# EAGLE library part LIS302DL (library walkgeek-eagle)
LIS302DL edit this description Auto generated by make-symbol-device-package-bsdl.ulp Rev. 43 Source: LIS302DL.txt
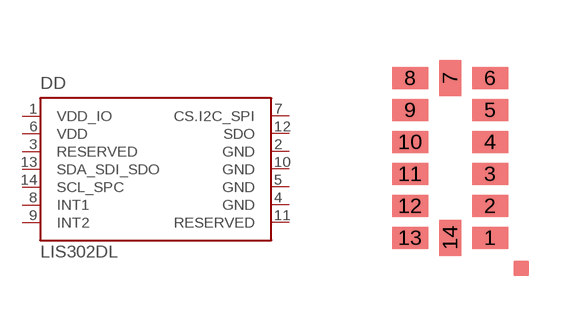
[diagram p6: symbol with the pads of LGA14; footprint LGA14]

Designator prefix DD

## LIS302DL  [LGA14]
1  VDD_IO  pwr
2  GND  pwr
3  RESERVED  nc
4  GND  pwr
5  GND  pwr
6  VDD  pwr
7  CS.I2C_SPI
8  INT1  out
9  INT2  out
10  GND  pwr
11  RESERVED  nc
12  SDO
13  SDA_SDI_SDO
14  SCL_SPC

## Footprint LGA14 (pad centres in mm)
smd 0.9 x 0.55: 1 1,-2; 2 1,-1.2; 3 1,-0.4; 4 1,0.4; 5 1,1.2; 6 1,2; 8 -1,2; 9 -1,1.2; 10 -1,0.4; 11 -1,-0.4; 12 -1,-1.2; 13 -1,-2
smd 0.55 x 0.9: 7 0,2; 14 0,-2